# Altium integrated library WE-PMI_rev16a.intlib: 92 symbols
Pins are listed as number, name and electrical type; pins without a type are passive.

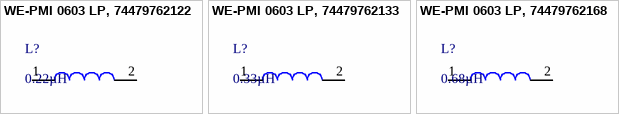
[diagram p0: symbols WE-PMI 0603 LP, 74479762122 to WE-PMI 0603 LP, 74479762168]

## WE-PMI 0603 LP, 74479762122
designator L?, comment 0.22µH
WE-PMI Power Multilayer Inductor, L= 0.22µH; partNo: 74479762122; Manufacturer: Wurth Elektronik; Inductance: 0.22µH; ComponentLink1Description: Manufacturer; ComponentLink1URL: http://www.we-online.de; Created by: Baojun Chen; Created Date: Dec.2015; ComponentLink2Description: Datasheet; ComponentLink2URL: http://katalog.we-online.de/pbs/datasheet/74479762122.pdf
footprint 74479762xxx_0603
pins: 1, 2

## WE-PMI 0603 LP, 74479762133
designator L?, comment 0.33µH
WE-PMI Power Multilayer Inductor, L= 0.33µH; partNo: 74479762133; Manufacturer: Wurth Elektronik; Inductance: 0.33µH; ComponentLink1Description: Manufacturer; ComponentLink1URL: http://www.we-online.de; Created by: Baojun Chen; Created Date: Dec.2015; ComponentLink2Description: Datasheet; ComponentLink2URL: http://katalog.we-online.de/pbs/datasheet/74479762133.pdf
footprint 74479762xxx_0603
pins: 1, 2

## WE-PMI 0603 LP, 74479762168
designator L?, comment 0.68µH
WE-PMI Power Multilayer Inductor, L= 0.68µH; partNo: 74479762168; Manufacturer: Wurth Elektronik; Inductance: 0.68µH; ComponentLink1Description: Manufacturer; ComponentLink1URL: http://www.we-online.de; Created by: Baojun Chen; Created Date: Dec.2015; ComponentLink2Description: Datasheet; ComponentLink2URL: http://katalog.we-online.de/pbs/datasheet/74479762168.pdf
footprint 74479762xxx_0603
pins: 1, 2


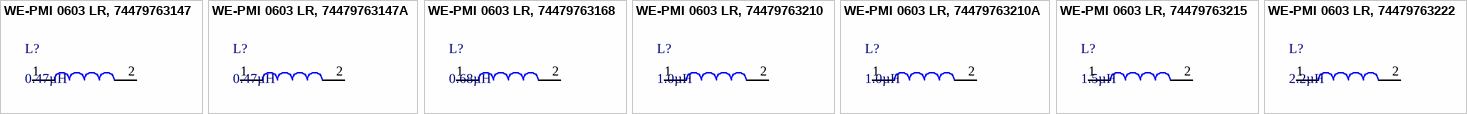
[diagram p1: symbols WE-PMI 0603 LR, 74479763147 to WE-PMI 0603 LR, 74479763222]

## WE-PMI 0603 LR, 74479763147
designator L?, comment 0.47µH
WE-PMI Power Multilayer Inductor, L= 0.47µH; partNo: 74479763147; Manufacturer: Wurth Elektronik; Inductance: 0.47µH; ComponentLink1Description: Manufacturer; ComponentLink1URL: http://www.we-online.de; Created by: Baojun Chen; Created Date: Dec.2015; ComponentLink2Description: Datasheet; ComponentLink2URL: http://katalog.we-online.de/pbs/datasheet/74479763147.pdf
footprint 74479763xxx_0603
pins: 1, 2

## WE-PMI 0603 LR, 74479763147A
designator L?, comment 0.47µH
WE-PMI Power Multilayer Inductor, L= 0.47µH; partNo: 74479763147A; Manufacturer: Wurth Elektronik; Inductance: 0.47µH; ComponentLink1Description: Manufacturer; ComponentLink1URL: http://www.we-online.de; Created by: Baojun Chen; Created Date: Dec.2015; ComponentLink2Description: Datasheet; ComponentLink2URL: http://katalog.we-online.de/pbs/datasheet/74479763147A.pdf
footprint 74479763xxx_0603
pins: 1, 2

## WE-PMI 0603 LR, 74479763168
designator L?, comment 0.68µH
WE-PMI Power Multilayer Inductor, L= 0.68µH; partNo: 74479763168; Manufacturer: Wurth Elektronik; Inductance: 0.68µH; ComponentLink1Description: Manufacturer; ComponentLink1URL: http://www.we-online.de; Created by: Baojun Chen; Created Date: Dec.2015; ComponentLink2Description: Datasheet; ComponentLink2URL: http://katalog.we-online.de/pbs/datasheet/74479763168.pdf
footprint 74479763xxx_0603
pins: 1, 2

## WE-PMI 0603 LR, 74479763210
designator L?, comment 1.0µH
WE-PMI Power Multilayer Inductor, L= 1.0µH; partNo: 74479763210; Manufacturer: Wurth Elektronik; Inductance: 1.0µH; ComponentLink1Description: Manufacturer; ComponentLink1URL: http://www.we-online.de; Created by: Baojun Chen; Created Date: Dec.2015; ComponentLink2Description: Datasheet; ComponentLink2URL: http://katalog.we-online.de/pbs/datasheet/74479763210.pdf
footprint 74479763xxx_0603
pins: 1, 2

## WE-PMI 0603 LR, 74479763210A
designator L?, comment 1.0µH
WE-PMI Power Multilayer Inductor, L= 1.0µH; partNo: 74479763210A; Manufacturer: Wurth Elektronik; Inductance: 1.0µH; ComponentLink1Description: Manufacturer; ComponentLink1URL: http://www.we-online.de; Created by: Baojun Chen; Created Date: Dec.2015; ComponentLink2Description: Datasheet; ComponentLink2URL: http://katalog.we-online.de/pbs/datasheet/74479763210A.pdf
footprint 74479763xxx_0603
pins: 1, 2

## WE-PMI 0603 LR, 74479763215
designator L?, comment 1.5µH
WE-PMI Power Multilayer Inductor, L= 1.5µH; partNo: 74479763215; Manufacturer: Wurth Elektronik; Inductance: 1.5µH; ComponentLink1Description: Manufacturer; ComponentLink1URL: http://www.we-online.de; Created by: Baojun Chen; Created Date: Dec.2015; ComponentLink2Description: Datasheet; ComponentLink2URL: http://katalog.we-online.de/pbs/datasheet/74479763215.pdf
footprint 74479763xxx_0603
pins: 1, 2

## WE-PMI 0603 LR, 74479763222
designator L?, comment 2.2µH
WE-PMI Power Multilayer Inductor, L= 2.2µH; partNo: 74479763222; Manufacturer: Wurth Elektronik; Inductance: 2.2µH; ComponentLink1Description: Manufacturer; ComponentLink1URL: http://www.we-online.de; Created by: Baojun Chen; Created Date: Dec.2015; ComponentLink2Description: Datasheet; ComponentLink2URL: http://katalog.we-online.de/pbs/datasheet/74479763222.pdf
footprint 74479763xxx_0603
pins: 1, 2


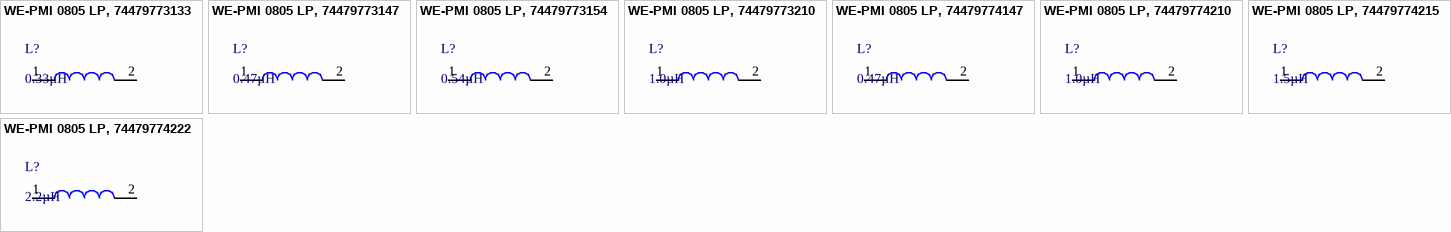
[diagram p2: symbols WE-PMI 0805 LP, 74479773133 to WE-PMI 0805 LP, 74479774222]

## WE-PMI 0805 LP, 74479773133
designator L?, comment 0.33µH
WE-PMI Power Multilayer Inductor, L= 0.33µH; partNo: 74479773133; Manufacturer: Wurth Elektronik; Inductance: 0.33µH; ComponentLink1Description: Manufacturer; ComponentLink1URL: http://www.we-online.de; Created by: Baojun Chen; Created Date: Dec.2015; ComponentLink2Description: Datasheet; ComponentLink2URL: http://katalog.we-online.de/pbs/datasheet/74479773133.pdf
footprint 74479774xxx_0805
pins: 1, 2

## WE-PMI 0805 LP, 74479773147
designator L?, comment 0.47µH
WE-PMI Power Multilayer Inductor, L= 0.47µH; partNo: 74479773147; Manufacturer: Wurth Elektronik; Inductance: 0.47µH; ComponentLink1Description: Manufacturer; ComponentLink1URL: http://www.we-online.de; Created by: Baojun Chen; Created Date: Dec.2015; ComponentLink2Description: Datasheet; ComponentLink2URL: http://katalog.we-online.de/pbs/datasheet/74479773147.pdf
footprint 74479774xxx_0805
pins: 1, 2

## WE-PMI 0805 LP, 74479773154
designator L?, comment 0.54µH
WE-PMI Power Multilayer Inductor, L= 0.54µH; partNo: 74479773154; Manufacturer: Wurth Elektronik; Inductance: 0.54µH; ComponentLink1Description: Manufacturer; ComponentLink1URL: http://www.we-online.de; Created by: Baojun Chen; Created Date: Dec.2015; ComponentLink2Description: Datasheet; ComponentLink2URL: http://katalog.we-online.de/pbs/datasheet/74479773154.pdf
footprint 74479774xxx_0805
pins: 1, 2

## WE-PMI 0805 LP, 74479773210
designator L?, comment 1.0µH
WE-PMI Power Multilayer Inductor, L= 1.0µH; partNo: 74479773210; Manufacturer: Wurth Elektronik; Inductance: 1.0µH; ComponentLink1Description: Manufacturer; ComponentLink1URL: http://www.we-online.de; Created by: Baojun Chen; Created Date: Dec.2015; ComponentLink2Description: Datasheet; ComponentLink2URL: http://katalog.we-online.de/pbs/datasheet/74479773210.pdf
footprint 74479774xxx_0805
pins: 1, 2

## WE-PMI 0805 LP, 74479774147
designator L?, comment 0.47µH
WE-PMI Power Multilayer Inductor, L= 0.47µH; partNo: 74479774147; Manufacturer: Wurth Elektronik; Inductance: 0.47µH; ComponentLink1Description: Manufacturer; ComponentLink1URL: http://www.we-online.de; Created by: Baojun Chen; Created Date: Dec.2015; ComponentLink2Description: Datasheet; ComponentLink2URL: http://katalog.we-online.de/pbs/datasheet/74479774147.pdf
footprint 74479774xxx_0805
pins: 1, 2

## WE-PMI 0805 LP, 74479774210
designator L?, comment 1.0µH
WE-PMI Power Multilayer Inductor, L= 1.0µH; partNo: 74479774210; Manufacturer: Wurth Elektronik; Inductance: 1.0µH; ComponentLink1Description: Manufacturer; ComponentLink1URL: http://www.we-online.de; Created by: Baojun Chen; Created Date: Dec.2015; ComponentLink2Description: Datasheet; ComponentLink2URL: http://katalog.we-online.de/pbs/datasheet/74479774210.pdf
footprint 74479774xxx_0805
pins: 1, 2

## WE-PMI 0805 LP, 74479774215
designator L?, comment 1.5µH
WE-PMI Power Multilayer Inductor, L= 1.5µH; partNo: 74479774215; Manufacturer: Wurth Elektronik; Inductance: 1.5µH; ComponentLink1Description: Manufacturer; ComponentLink1URL: http://www.we-online.de; Created by: Baojun Chen; Created Date: Dec.2015; ComponentLink2Description: Datasheet; ComponentLink2URL: http://katalog.we-online.de/pbs/datasheet/74479774215.pdf
footprint 74479774xxx_0805
pins: 1, 2

## WE-PMI 0805 LP, 74479774222
designator L?, comment 2.2µH
WE-PMI Power Multilayer Inductor, L= 2.2µH; partNo: 74479774222; Manufacturer: Wurth Elektronik; Inductance: 2.2µH; ComponentLink1Description: Manufacturer; ComponentLink1URL: http://www.we-online.de; Created by: Baojun Chen; Created Date: Dec.2015; ComponentLink2Description: Datasheet; ComponentLink2URL: http://katalog.we-online.de/pbs/datasheet/74479774222.pdf
footprint 74479774xxx_0805
pins: 1, 2


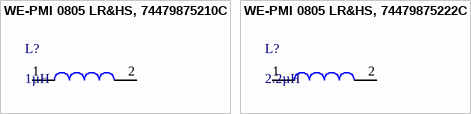
[diagram p3: symbols WE-PMI 0805 LR&HS, 74479875210C to WE-PMI 0805 LR&HS, 74479875222C]

## WE-PMI 0805 LR&HS, 74479875210C
designator L?, comment 1µH
WE-PMI Power Multilayer Inductor, L= 1µH; partNo: 74479875210C; Manufacturer: Wurth Elektronik; Inductance: 1µH; ComponentLink1Description: Manufacturer; ComponentLink1URL: http://www.we-online.de; Created by: Baojun Chen; Created Date: Dec.2015; ComponentLink2Description: Datasheet; ComponentLink2URL: http://katalog.we-online.de/pbs/datasheet/74479875210C.pdf
footprint 74479875xxx_0805
pins: 1, 2

## WE-PMI 0805 LR&HS, 74479875222C
designator L?, comment 2.2µH
WE-PMI Power Multilayer Inductor, L= 2.2µH; partNo: 74479875222C; Manufacturer: Wurth Elektronik; Inductance: 2.2µH; ComponentLink1Description: Manufacturer; ComponentLink1URL: http://www.we-online.de; Created by: Baojun Chen; Created Date: Dec.2015; ComponentLink2Description: Datasheet; ComponentLink2URL: http://katalog.we-online.de/pbs/datasheet/74479875222C.pdf
footprint 74479875xxx_0805
pins: 1, 2


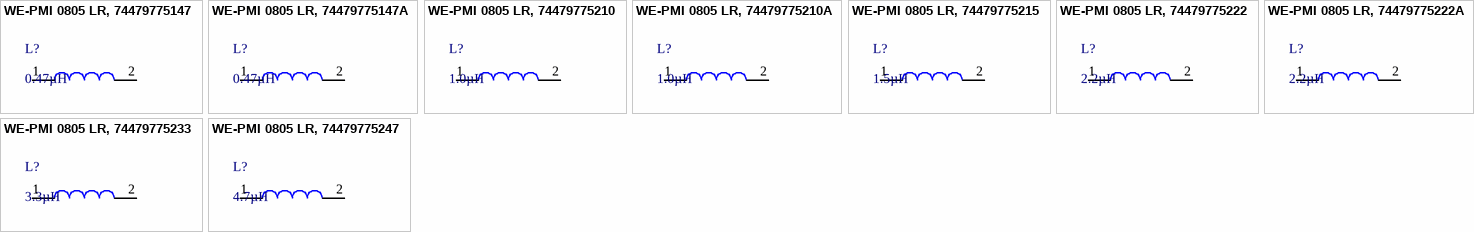
[diagram p4: symbols WE-PMI 0805 LR, 74479775147 to WE-PMI 0805 LR, 74479775247]

## WE-PMI 0805 LR, 74479775147
designator L?, comment 0.47µH
WE-PMI Power Multilayer Inductor, L= 0.47µH; partNo: 74479775147; Manufacturer: Wurth Elektronik; Inductance: 0.47µH; ComponentLink1Description: Manufacturer; ComponentLink1URL: http://www.we-online.de; Created by: Baojun Chen; Created Date: Dec.2015; ComponentLink2Description: Datasheet; ComponentLink2URL: http://katalog.we-online.de/pbs/datasheet/74479775147.pdf
footprint 74479775xxx_0805
pins: 1, 2

## WE-PMI 0805 LR, 74479775147A
designator L?, comment 0.47µH
WE-PMI Power Multilayer Inductor, L= 0.47µH; partNo: 74479775147A; Manufacturer: Wurth Elektronik; Inductance: 0.47µH; ComponentLink1Description: Manufacturer; ComponentLink1URL: http://www.we-online.de; Created by: Baojun Chen; Created Date: Dec.2015; ComponentLink2Description: Datasheet; ComponentLink2URL: http://katalog.we-online.de/pbs/datasheet/74479775147A.pdf
footprint 74479775xxxA_0805
pins: 1, 2

## WE-PMI 0805 LR, 74479775210
designator L?, comment 1.0µH
WE-PMI Power Multilayer Inductor, L= 1.0µH; partNo: 74479775210; Manufacturer: Wurth Elektronik; Inductance: 1.0µH; ComponentLink1Description: Manufacturer; ComponentLink1URL: http://www.we-online.de; Created by: Baojun Chen; Created Date: Dec.2015; ComponentLink2Description: Datasheet; ComponentLink2URL: http://katalog.we-online.de/pbs/datasheet/74479775210.pdf
footprint 74479775xxx_0805
pins: 1, 2

## WE-PMI 0805 LR, 74479775210A
designator L?, comment 1.0µH
WE-PMI Power Multilayer Inductor, L= 1.0µH; partNo: 74479775210A; Manufacturer: Wurth Elektronik; Inductance: 1.0µH; ComponentLink1Description: Manufacturer; ComponentLink1URL: http://www.we-online.de; Created by: Baojun Chen; Created Date: Dec.2015; ComponentLink2Description: Datasheet; ComponentLink2URL: http://katalog.we-online.de/pbs/datasheet/74479775210A.pdf
footprint 74479775xxxA_0805
pins: 1, 2

## WE-PMI 0805 LR, 74479775215
designator L?, comment 1.5µH
WE-PMI Power Multilayer Inductor, L= 1.5µH; partNo: 74479775215; Manufacturer: Wurth Elektronik; Inductance: 1.5µH; ComponentLink1Description: Manufacturer; ComponentLink1URL: http://www.we-online.de; Created by: Baojun Chen; Created Date: Dec.2015; ComponentLink2Description: Datasheet; ComponentLink2URL: http://katalog.we-online.de/pbs/datasheet/74479775215.pdf
footprint 74479775xxx_0805
pins: 1, 2

## WE-PMI 0805 LR, 74479775222
designator L?, comment 2.2µH
WE-PMI Power Multilayer Inductor, L= 2.2µH; partNo: 74479775222; Manufacturer: Wurth Elektronik; Inductance: 2.2µH; ComponentLink1Description: Manufacturer; ComponentLink1URL: http://www.we-online.de; Created by: Baojun Chen; Created Date: Dec.2015; ComponentLink2Description: Datasheet; ComponentLink2URL: http://katalog.we-online.de/pbs/datasheet/74479775222.pdf
footprint 74479775xxx_0805
pins: 1, 2

## WE-PMI 0805 LR, 74479775222A
designator L?, comment 2.2µH
WE-PMI Power Multilayer Inductor, L= 2.2µH; partNo: 74479775222A; Manufacturer: Wurth Elektronik; Inductance: 2.2µH; ComponentLink1Description: Manufacturer; ComponentLink1URL: http://www.we-online.de; Created by: Baojun Chen; Created Date: Dec.2015; ComponentLink2Description: Datasheet; ComponentLink2URL: http://katalog.we-online.de/pbs/datasheet/74479775222A.pdf
footprint 74479775xxxA_0805
pins: 1, 2

## WE-PMI 0805 LR, 74479775233
designator L?, comment 3.3µH
WE-PMI Power Multilayer Inductor, L= 3.3µH; partNo: 74479775233; Manufacturer: Wurth Elektronik; Inductance: 3.3µH; ComponentLink1Description: Manufacturer; ComponentLink1URL: http://www.we-online.de; Created by: Baojun Chen; Created Date: Dec.2015; ComponentLink2Description: Datasheet; ComponentLink2URL: http://katalog.we-online.de/pbs/datasheet/74479775233.pdf
footprint 74479775xxx_0805
pins: 1, 2

## WE-PMI 0805 LR, 74479775247
designator L?, comment 4.7µH
WE-PMI Power Multilayer Inductor, L= 4.7µH; partNo: 74479775247; Manufacturer: Wurth Elektronik; Inductance: 4.7µH; ComponentLink1Description: Manufacturer; ComponentLink1URL: http://www.we-online.de; Created by: Baojun Chen; Created Date: Dec.2015; ComponentLink2Description: Datasheet; ComponentLink2URL: http://katalog.we-online.de/pbs/datasheet/74479775247.pdf
footprint 74479775xxx_0805
pins: 1, 2


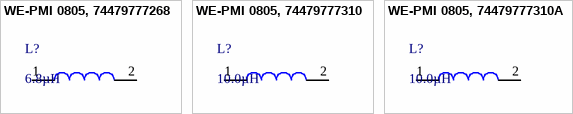
[diagram p5: symbols WE-PMI 0805, 74479777268 to WE-PMI 0805, 74479777310A]

## WE-PMI 0805, 74479777268
designator L?, comment 6.8µH
WE-PMI Power Multilayer Inductor, L= 6.8µH; partNo: 74479777268; Manufacturer: Wurth Elektronik; Inductance: 6.8µH; ComponentLink1Description: Manufacturer; ComponentLink1URL: http://www.we-online.de; Created by: Baojun Chen; Created Date: Dec.2015; ComponentLink2Description: Datasheet; ComponentLink2URL: http://katalog.we-online.de/pbs/datasheet/74479777268.pdf
footprint 74479777xxx_0805
pins: 1, 2

## WE-PMI 0805, 74479777310
designator L?, comment 10.0µH
WE-PMI Power Multilayer Inductor, L= 10.0µH; partNo: 74479777310; Manufacturer: Wurth Elektronik; Inductance: 10.0µH; ComponentLink1Description: Manufacturer; ComponentLink1URL: http://www.we-online.de; Created by: Baojun Chen; Created Date: Dec.2015; ComponentLink2Description: Datasheet; ComponentLink2URL: http://katalog.we-online.de/pbs/datasheet/74479777310.pdf
footprint 74479777xxx_0805
pins: 1, 2

## WE-PMI 0805, 74479777310A
designator L?, comment 10.0µH
WE-PMI Power Multilayer Inductor, L= 10.0µH; partNo: 74479777310A; Manufacturer: Wurth Elektronik; Inductance: 10.0µH; ComponentLink1Description: Manufacturer; ComponentLink1URL: http://www.we-online.de; Created by: Baojun Chen; Created Date: Dec.2015; ComponentLink2Description: Datasheet; ComponentLink2URL: http://katalog.we-online.de/pbs/datasheet/74479777310A.pdf
footprint 74479777xxx_0805
pins: 1, 2


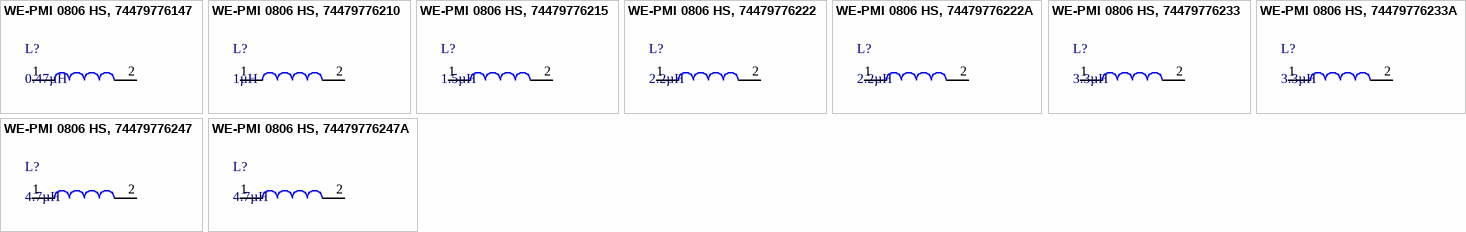
[diagram p6: symbols WE-PMI 0806 HS, 74479776147 to WE-PMI 0806 HS, 74479776247A]

## WE-PMI 0806 HS, 74479776147
designator L?, comment 0.47µH
WE-PMI Power Multilayer Inductor, L= 0.47µH; partNo: 74479776147; Manufacturer: Wurth Elektronik; Inductance: 0.47µH; ComponentLink1Description: Manufacturer; ComponentLink1URL: http://www.we-online.de; Created by: Baojun Chen; Created Date: Dec.2015; ComponentLink2Description: Datasheet; ComponentLink2URL: http://katalog.we-online.de/pbs/datasheet/74479776147.pdf
footprint 74479776xxx_0806
pins: 1, 2

## WE-PMI 0806 HS, 74479776210
designator L?, comment 1µH
WE-PMI Power Multilayer Inductor, L= 1µH; partNo: 74479776210; Manufacturer: Wurth Elektronik; Inductance: 1µH; ComponentLink1Description: Manufacturer; ComponentLink1URL: http://www.we-online.de; Created by: Baojun Chen; Created Date: Dec.2015; ComponentLink2Description: Datasheet; ComponentLink2URL: http://katalog.we-online.de/pbs/datasheet/74479776210.pdf
footprint 74479776xxx_0806
pins: 1, 2

## WE-PMI 0806 HS, 74479776215
designator L?, comment 1.5µH
WE-PMI Power Multilayer Inductor, L= 1.5µH; partNo: 74479776215; Manufacturer: Wurth Elektronik; Inductance: 1.5µH; ComponentLink1Description: Manufacturer; ComponentLink1URL: http://www.we-online.de; Created by: Baojun Chen; Created Date: Dec.2015; ComponentLink2Description: Datasheet; ComponentLink2URL: http://katalog.we-online.de/pbs/datasheet/74479776215.pdf
footprint 74479776xxx_0806
pins: 1, 2

## WE-PMI 0806 HS, 74479776222
designator L?, comment 2.2µH
WE-PMI Power Multilayer Inductor, L= 2.2µH; partNo: 74479776222; Manufacturer: Wurth Elektronik; Inductance: 2.2µH; ComponentLink1Description: Manufacturer; ComponentLink1URL: http://www.we-online.de; Created by: Baojun Chen; Created Date: Dec.2015; ComponentLink2Description: Datasheet; ComponentLink2URL: http://katalog.we-online.de/pbs/datasheet/74479776222.pdf
footprint 74479776xxx_0806
pins: 1, 2

## WE-PMI 0806 HS, 74479776222A
designator L?, comment 2.2µH
WE-PMI Power Multilayer Inductor, L= 2.2µH; partNo: 74479776222A; Manufacturer: Wurth Elektronik; Inductance: 2.2µH; ComponentLink1Description: Manufacturer; ComponentLink1URL: http://www.we-online.de; Created by: Baojun Chen; Created Date: Dec.2015; ComponentLink2Description: Datasheet; ComponentLink2URL: http://katalog.we-online.de/pbs/datasheet/74479776222A.pdf
footprint 74479776xxxA_0806
pins: 1, 2

## WE-PMI 0806 HS, 74479776233
designator L?, comment 3.3µH
WE-PMI Power Multilayer Inductor, L= 3.3µH; partNo: 74479776233; Manufacturer: Wurth Elektronik; Inductance: 3.3µH; ComponentLink1Description: Manufacturer; ComponentLink1URL: http://www.we-online.de; Created by: Baojun Chen; Created Date: Dec.2015; ComponentLink2Description: Datasheet; ComponentLink2URL: http://katalog.we-online.de/pbs/datasheet/74479776233.pdf
footprint 74479776xxx_0806
pins: 1, 2

## WE-PMI 0806 HS, 74479776233A
designator L?, comment 3.3µH
WE-PMI Power Multilayer Inductor, L= 3.3µH; partNo: 74479776233A; Manufacturer: Wurth Elektronik; Inductance: 3.3µH; ComponentLink1Description: Manufacturer; ComponentLink1URL: http://www.we-online.de; Created by: Baojun Chen; Created Date: Dec.2015; ComponentLink2Description: Datasheet; ComponentLink2URL: http://katalog.we-online.de/pbs/datasheet/74479776233A.pdf
footprint 74479776xxxA_0806
pins: 1, 2

## WE-PMI 0806 HS, 74479776247
designator L?, comment 4.7µH
WE-PMI Power Multilayer Inductor, L= 4.7µH; partNo: 74479776247; Manufacturer: Wurth Elektronik; Inductance: 4.7µH; ComponentLink1Description: Manufacturer; ComponentLink1URL: http://www.we-online.de; Created by: Baojun Chen; Created Date: Dec.2015; ComponentLink2Description: Datasheet; ComponentLink2URL: http://katalog.we-online.de/pbs/datasheet/74479776247.pdf
footprint 74479776xxx_0806
pins: 1, 2

## WE-PMI 0806 HS, 74479776247A
designator L?, comment 4.7µH
WE-PMI Power Multilayer Inductor, L= 4.7µH; partNo: 74479776247A; Manufacturer: Wurth Elektronik; Inductance: 4.7µH; ComponentLink1Description: Manufacturer; ComponentLink1URL: http://www.we-online.de; Created by: Baojun Chen; Created Date: Dec.2015; ComponentLink2Description: Datasheet; ComponentLink2URL: http://katalog.we-online.de/pbs/datasheet/74479776247A.pdf
footprint 74479776xxxA_0806
pins: 1, 2


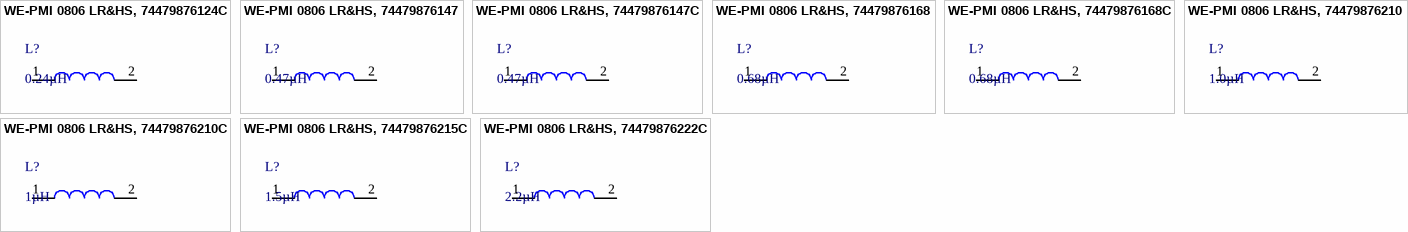
[diagram p7: symbols WE-PMI 0806 LR&HS, 74479876124C to WE-PMI 0806 LR&HS, 74479876222C]

## WE-PMI 0806 LR&HS, 74479876124C
designator L?, comment 0.24µH
WE-PMI Power Multilayer Inductor, L= 0.24µH; partNo: 74479876124C; Manufacturer: Wurth Elektronik; Inductance: 0.24µH; ComponentLink1Description: Manufacturer; ComponentLink1URL: http://www.we-online.de; Created by: Baojun Chen; Created Date: Dec.2015; ComponentLink2Description: Datasheet; ComponentLink2URL: http://katalog.we-online.de/pbs/datasheet/74479876124C.pdf
footprint 74479876xxxC_0806
pins: 1, 2

## WE-PMI 0806 LR&HS, 74479876147
designator L?, comment 0.47µH
WE-PMI Power Multilayer Inductor, L= 0.47µH; partNo: 74479876147; Manufacturer: Wurth Elektronik; Inductance: 0.47µH; ComponentLink1Description: Manufacturer; ComponentLink1URL: http://www.we-online.de; Created by: Baojun Chen; Created Date: Dec.2015; ComponentLink2Description: Datasheet; ComponentLink2URL: http://katalog.we-online.de/pbs/datasheet/74479876147.pdf
footprint 74479876xxxC_0806
pins: 1, 2

## WE-PMI 0806 LR&HS, 74479876147C
designator L?, comment 0.47µH
WE-PMI Power Multilayer Inductor, L= 0.47µH; partNo: 74479876147C; Manufacturer: Wurth Elektronik; Inductance: 0.47µH; ComponentLink1Description: Manufacturer; ComponentLink1URL: http://www.we-online.de; Created by: Baojun Chen; Created Date: Dec.2015; ComponentLink2Description: Datasheet; ComponentLink2URL: http://katalog.we-online.de/pbs/datasheet/74479876147C.pdf
footprint 74479876xxxC_0806
pins: 1, 2

## WE-PMI 0806 LR&HS, 74479876168
designator L?, comment 0.68µH
WE-PMI Power Multilayer Inductor, L= 0.68µH; partNo: 74479876168; Manufacturer: Wurth Elektronik; Inductance: 0.68µH; ComponentLink1Description: Manufacturer; ComponentLink1URL: http://www.we-online.de; Created by: Baojun Chen; Created Date: Dec.2015; ComponentLink2Description: Datasheet; ComponentLink2URL: http://katalog.we-online.de/pbs/datasheet/74479876168.pdf
footprint 74479876xxxC_0806
pins: 1, 2

## WE-PMI 0806 LR&HS, 74479876168C
designator L?, comment 0.68µH
WE-PMI Power Multilayer Inductor, L= 0.68µH; partNo: 74479876168C; Manufacturer: Wurth Elektronik; Inductance: 0.68µH; ComponentLink1Description: Manufacturer; ComponentLink1URL: http://www.we-online.de; Created by: Baojun Chen; Created Date: Dec.2015; ComponentLink2Description: Datasheet; ComponentLink2URL: http://katalog.we-online.de/pbs/datasheet/74479876168C.pdf
footprint 74479876xxxC_0806
pins: 1, 2

## WE-PMI 0806 LR&HS, 74479876210
designator L?, comment 1.0µH
WE-PMI Power Multilayer Inductor, L= 1.0µH; partNo: 74479876210; Manufacturer: Wurth Elektronik; Inductance: 1.0µH; ComponentLink1Description: Manufacturer; ComponentLink1URL: http://www.we-online.de; Created by: Baojun Chen; Created Date: Dec.2015; ComponentLink2Description: Datasheet; ComponentLink2URL: http://katalog.we-online.de/pbs/datasheet/74479876210.pdf
footprint 74479876xxxC_0806
pins: 1, 2

## WE-PMI 0806 LR&HS, 74479876210C
designator L?, comment 1µH
WE-PMI Power Multilayer Inductor, L= 1µH; partNo: 74479876210C; Manufacturer: Wurth Elektronik; Inductance: 1µH; ComponentLink1Description: Manufacturer; ComponentLink1URL: http://www.we-online.de; Created by: Baojun Chen; Created Date: Dec.2015; ComponentLink2Description: Datasheet; ComponentLink2URL: http://katalog.we-online.de/pbs/datasheet/74479876210C.pdf
footprint 74479876xxxC_0806
pins: 1, 2

## WE-PMI 0806 LR&HS, 74479876215C
designator L?, comment 1.5µH
WE-PMI Power Multilayer Inductor, L= 1.5µH; partNo: 74479876215C; Manufacturer: Wurth Elektronik; Inductance: 1.5µH; ComponentLink1Description: Manufacturer; ComponentLink1URL: http://www.we-online.de; Created by: Baojun Chen; Created Date: Dec.2015; ComponentLink2Description: Datasheet; ComponentLink2URL: http://katalog.we-online.de/pbs/datasheet/74479876215C.pdf
footprint 74479876xxxC_0806
pins: 1, 2

## WE-PMI 0806 LR&HS, 74479876222C
designator L?, comment 2.2µH
WE-PMI Power Multilayer Inductor, L= 2.2µH; partNo: 74479876222C; Manufacturer: Wurth Elektronik; Inductance: 2.2µH; ComponentLink1Description: Manufacturer; ComponentLink1URL: http://www.we-online.de; Created by: Baojun Chen; Created Date: Dec.2015; ComponentLink2Description: Datasheet; ComponentLink2URL: http://katalog.we-online.de/pbs/datasheet/74479876222C.pdf
footprint 74479876xxxC_0806
pins: 1, 2


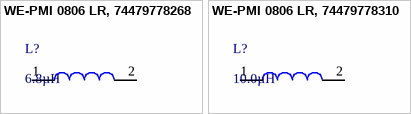
[diagram p8: symbols WE-PMI 0806 LR, 74479778268 to WE-PMI 0806 LR, 74479778310]

## WE-PMI 0806 LR, 74479778268
designator L?, comment 6.8µH
WE-PMI Power Multilayer Inductor, L= 6.8µH; partNo: 74479778268; Manufacturer: Wurth Elektronik; Inductance: 6.8µH; ComponentLink1Description: Manufacturer; ComponentLink1URL: http://www.we-online.de; Created by: Baojun Chen; Created Date: Dec.2015; ComponentLink2Description: Datasheet; ComponentLink2URL: http://katalog.we-online.de/pbs/datasheet/74479778268.pdf
footprint 74479778xxx_0806
pins: 1, 2

## WE-PMI 0806 LR, 74479778310
designator L?, comment 10.0µH
WE-PMI Power Multilayer Inductor, L= 10.0µH; partNo: 74479778310; Manufacturer: Wurth Elektronik; Inductance: 10.0µH; ComponentLink1Description: Manufacturer; ComponentLink1URL: http://www.we-online.de; Created by: Baojun Chen; Created Date: Dec.2015; ComponentLink2Description: Datasheet; ComponentLink2URL: http://katalog.we-online.de/pbs/datasheet/74479778310.pdf
footprint 74479778xxx_0806
pins: 1, 2


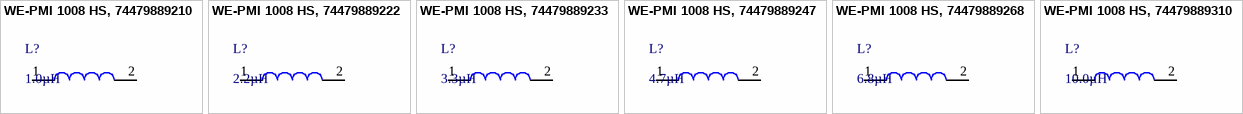
[diagram p9: symbols WE-PMI 1008 HS, 74479889210 to WE-PMI 1008 HS, 74479889310]

## WE-PMI 1008 HS, 74479889210
designator L?, comment 1.0µH
WE-PMI Power Multilayer Inductor, L= 1.0µH; partNo: 74479889210; Manufacturer: Wurth Elektronik; Inductance: 1.0µH; ComponentLink1Description: Manufacturer; ComponentLink1URL: http://www.we-online.de; Created by: Baojun Chen; Created Date: Dec.2015; ComponentLink2Description: Datasheet; ComponentLink2URL: http://katalog.we-online.de/pbs/datasheet/74479889210.pdf
footprint 74479889xxx_1008
pins: 1, 2

## WE-PMI 1008 HS, 74479889222
designator L?, comment 2.2µH
WE-PMI Power Multilayer Inductor, L= 2.2µH; partNo: 74479889222; Manufacturer: Wurth Elektronik; Inductance: 2.2µH; ComponentLink1Description: Manufacturer; ComponentLink1URL: http://www.we-online.de; Created by: Baojun Chen; Created Date: Dec.2015; ComponentLink2Description: Datasheet; ComponentLink2URL: http://katalog.we-online.de/pbs/datasheet/74479889222.pdf
footprint 74479889xxx_1008
pins: 1, 2

## WE-PMI 1008 HS, 74479889233
designator L?, comment 3.3µH
WE-PMI Power Multilayer Inductor, L= 3.3µH; partNo: 74479889233; Manufacturer: Wurth Elektronik; Inductance: 3.3µH; ComponentLink1Description: Manufacturer; ComponentLink1URL: http://www.we-online.de; Created by: Baojun Chen; Created Date: Dec.2015; ComponentLink2Description: Datasheet; ComponentLink2URL: http://katalog.we-online.de/pbs/datasheet/74479889233.pdf
footprint 74479889xxx_1008
pins: 1, 2

## WE-PMI 1008 HS, 74479889247
designator L?, comment 4.7µH
WE-PMI Power Multilayer Inductor, L= 4.7µH; partNo: 74479889247; Manufacturer: Wurth Elektronik; Inductance: 4.7µH; ComponentLink1Description: Manufacturer; ComponentLink1URL: http://www.we-online.de; Created by: Baojun Chen; Created Date: Dec.2015; ComponentLink2Description: Datasheet; ComponentLink2URL: http://katalog.we-online.de/pbs/datasheet/74479889247.pdf
footprint 74479889xxx_1008
pins: 1, 2

## WE-PMI 1008 HS, 74479889268
designator L?, comment 6.8µH
WE-PMI Power Multilayer Inductor, L= 6.8µH; partNo: 74479889268; Manufacturer: Wurth Elektronik; Inductance: 6.8µH; ComponentLink1Description: Manufacturer; ComponentLink1URL: http://www.we-online.de; Created by: Baojun Chen; Created Date: Dec.2015; ComponentLink2Description: Datasheet; ComponentLink2URL: http://katalog.we-online.de/pbs/datasheet/74479889268.pdf
footprint 74479889xxx_1008
pins: 1, 2

## WE-PMI 1008 HS, 74479889310
designator L?, comment 10.0µH
WE-PMI Power Multilayer Inductor, L= 10.0µH; partNo: 74479889310; Manufacturer: Wurth Elektronik; Inductance: 10.0µH; ComponentLink1Description: Manufacturer; ComponentLink1URL: http://www.we-online.de; Created by: Baojun Chen; Created Date: Dec.2015; ComponentLink2Description: Datasheet; ComponentLink2URL: http://katalog.we-online.de/pbs/datasheet/74479889310.pdf
footprint 74479889xxx_1008
pins: 1, 2


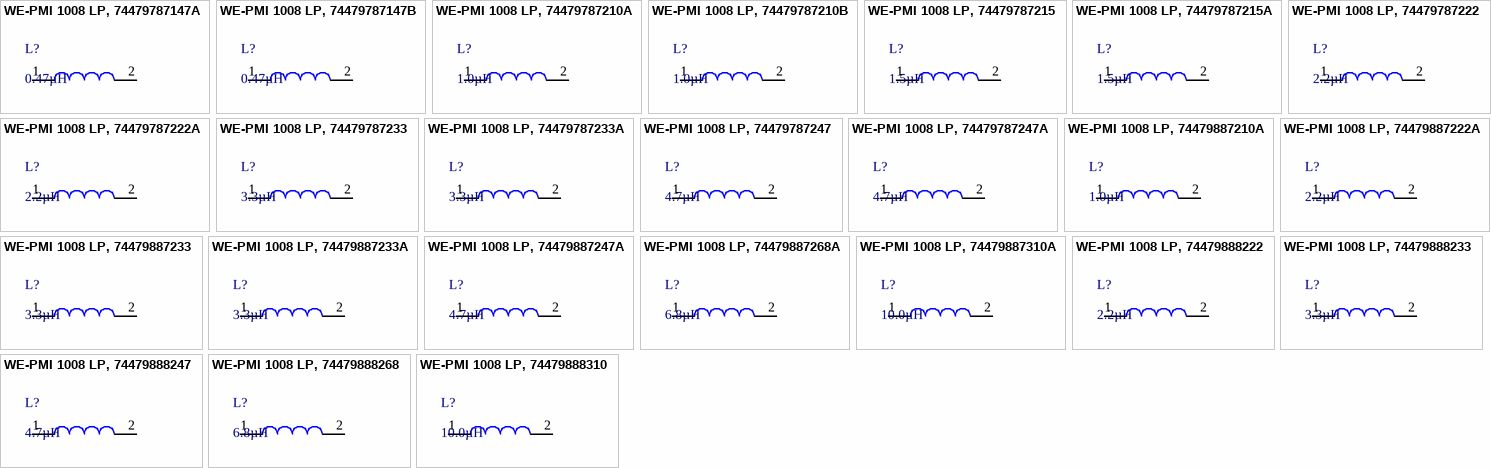
[diagram p10: symbols WE-PMI 1008 LP, 74479787147A to WE-PMI 1008 LP, 74479888310]

## WE-PMI 1008 LP, 74479787147A
designator L?, comment 0.47µH
WE-PMI Power Multilayer Inductor, L= 0.47µH; partNo: 74479787147A; Manufacturer: Wurth Elektronik; Inductance: 0.47µH; ComponentLink1Description: Manufacturer; ComponentLink1URL: http://www.we-online.de; Created by: Baojun Chen; Created Date: Dec.2015; ComponentLink2Description: Datasheet; ComponentLink2URL: http://katalog.we-online.de/pbs/datasheet/74479787147A.pdf
footprint 74479787xxxA_1008
pins: 1, 2

## WE-PMI 1008 LP, 74479787147B
designator L?, comment 0.47µH
WE-PMI Power Multilayer Inductor, L= 0.47µH; partNo: 74479787147B; Manufacturer: Wurth Elektronik; Inductance: 0.47µH; ComponentLink1Description: Manufacturer; ComponentLink1URL: http://www.we-online.de; Created by: Baojun Chen; Created Date: Dec.2015; ComponentLink2Description: Datasheet; ComponentLink2URL: http://katalog.we-online.de/pbs/datasheet/74479787147B.pdf
footprint 74479787xxx_1008
pins: 1, 2

## WE-PMI 1008 LP, 74479787210A
designator L?, comment 1.0µH
WE-PMI Power Multilayer Inductor, L= 1.0µH; partNo: 74479787210A; Manufacturer: Wurth Elektronik; Inductance: 1.0µH; ComponentLink1Description: Manufacturer; ComponentLink1URL: http://www.we-online.de; Created by: Baojun Chen; Created Date: Dec.2015; ComponentLink2Description: Datasheet; ComponentLink2URL: http://katalog.we-online.de/pbs/datasheet/74479787210A.pdf
footprint 74479787xxxA_1008
pins: 1, 2

## WE-PMI 1008 LP, 74479787210B
designator L?, comment 1.0µH
WE-PMI Power Multilayer Inductor, L= 1.0µH; partNo: 74479787210B; Manufacturer: Wurth Elektronik; Inductance: 1.0µH; ComponentLink1Description: Manufacturer; ComponentLink1URL: http://www.we-online.de; Created by: Baojun Chen; Created Date: Dec.2015; ComponentLink2Description: Datasheet; ComponentLink2URL: http://katalog.we-online.de/pbs/datasheet/74479787210B.pdf
footprint 74479787xxx_1008
pins: 1, 2

## WE-PMI 1008 LP, 74479787215
designator L?, comment 1.5µH
WE-PMI Power Multilayer Inductor, L= 1.5µH; partNo: 74479787215; Manufacturer: Wurth Elektronik; Inductance: 1.5µH; ComponentLink1Description: Manufacturer; ComponentLink1URL: http://www.we-online.de; Created by: Baojun Chen; Created Date: Dec.2015; ComponentLink2Description: Datasheet; ComponentLink2URL: http://katalog.we-online.de/pbs/datasheet/74479787215.pdf
footprint 74479787xxx_1008
pins: 1, 2

## WE-PMI 1008 LP, 74479787215A
designator L?, comment 1.5µH
WE-PMI Power Multilayer Inductor, L= 1.5µH; partNo: 74479787215A; Manufacturer: Wurth Elektronik; Inductance: 1.5µH; ComponentLink1Description: Manufacturer; ComponentLink1URL: http://www.we-online.de; Created by: Baojun Chen; Created Date: Dec.2015; ComponentLink2Description: Datasheet; ComponentLink2URL: http://katalog.we-online.de/pbs/datasheet/74479787215A.pdf
footprint 74479787xxxA_1008
pins: 1, 2

## WE-PMI 1008 LP, 74479787222
designator L?, comment 2.2µH
WE-PMI Power Multilayer Inductor, L= 2.2µH; partNo: 74479787222; Manufacturer: Wurth Elektronik; Inductance: 2.2µH; ComponentLink1Description: Manufacturer; ComponentLink1URL: http://www.we-online.de; Created by: Baojun Chen; Created Date: Dec.2015; ComponentLink2Description: Datasheet; ComponentLink2URL: http://katalog.we-online.de/pbs/datasheet/74479787222.pdf
footprint 74479787xxx_1008
pins: 1, 2

## WE-PMI 1008 LP, 74479787222A
designator L?, comment 2.2µH
WE-PMI Power Multilayer Inductor, L= 2.2µH; partNo: 74479787222A; Manufacturer: Wurth Elektronik; Inductance: 2.2µH; ComponentLink1Description: Manufacturer; ComponentLink1URL: http://www.we-online.de; Created by: Baojun Chen; Created Date: Dec.2015; ComponentLink2Description: Datasheet; ComponentLink2URL: http://katalog.we-online.de/pbs/datasheet/74479787222A.pdf
footprint 74479787xxxA_1008
pins: 1, 2

## WE-PMI 1008 LP, 74479787233
designator L?, comment 3.3µH
WE-PMI Power Multilayer Inductor, L= 3.3µH; partNo: 74479787233; Manufacturer: Wurth Elektronik; Inductance: 3.3µH; ComponentLink1Description: Manufacturer; ComponentLink1URL: http://www.we-online.de; Created by: Baojun Chen; Created Date: Dec.2015; ComponentLink2Description: Datasheet; ComponentLink2URL: http://katalog.we-online.de/pbs/datasheet/74479787233.pdf
footprint 74479787xxx_1008
pins: 1, 2

## WE-PMI 1008 LP, 74479787233A
designator L?, comment 3.3µH
WE-PMI Power Multilayer Inductor, L= 3.3µH; partNo: 74479787233A; Manufacturer: Wurth Elektronik; Inductance: 3.3µH; ComponentLink1Description: Manufacturer; ComponentLink1URL: http://www.we-online.de; Created by: Baojun Chen; Created Date: Dec.2015; ComponentLink2Description: Datasheet; ComponentLink2URL: http://katalog.we-online.de/pbs/datasheet/74479787233A.pdf
footprint 74479787xxxA_1008
pins: 1, 2

## WE-PMI 1008 LP, 74479787247
designator L?, comment 4.7µH
WE-PMI Power Multilayer Inductor, L= 4.7µH; partNo: 74479787247; Manufacturer: Wurth Elektronik; Inductance: 4.7µH; ComponentLink1Description: Manufacturer; ComponentLink1URL: http://www.we-online.de; Created by: Baojun Chen; Created Date: Dec.2015; ComponentLink2Description: Datasheet; ComponentLink2URL: http://katalog.we-online.de/pbs/datasheet/74479787247.pdf
footprint 74479787xxx_1008
pins: 1, 2

## WE-PMI 1008 LP, 74479787247A
designator L?, comment 4.7µH
WE-PMI Power Multilayer Inductor, L= 4.7µH; partNo: 74479787247A; Manufacturer: Wurth Elektronik; Inductance: 4.7µH; ComponentLink1Description: Manufacturer; ComponentLink1URL: http://www.we-online.de; Created by: Baojun Chen; Created Date: Dec.2015; ComponentLink2Description: Datasheet; ComponentLink2URL: http://katalog.we-online.de/pbs/datasheet/74479787247A.pdf
footprint 74479787xxxA_1008
pins: 1, 2

## WE-PMI 1008 LP, 74479887210A
designator L?, comment 1.0µH
WE-PMI Power Multilayer Inductor, L= 1.0µH; partNo: 74479887210A; Manufacturer: Wurth Elektronik; Inductance: 1.0µH; ComponentLink1Description: Manufacturer; ComponentLink1URL: http://www.we-online.de; Created by: Baojun Chen; Created Date: Dec.2015; ComponentLink2Description: Datasheet; ComponentLink2URL: http://katalog.we-online.de/pbs/datasheet/74479887210A.pdf
footprint 74479887xxx_1008
pins: 1, 2

## WE-PMI 1008 LP, 74479887222A
designator L?, comment 2.2µH
WE-PMI Power Multilayer Inductor, L= 2.2µH; partNo: 74479887222A; Manufacturer: Wurth Elektronik; Inductance: 2.2µH; ComponentLink1Description: Manufacturer; ComponentLink1URL: http://www.we-online.de; Created by: Baojun Chen; Created Date: Dec.2015; ComponentLink2Description: Datasheet; ComponentLink2URL: http://katalog.we-online.de/pbs/datasheet/74479887222A.pdf
footprint 74479887xxx_1008
pins: 1, 2

## WE-PMI 1008 LP, 74479887233
designator L?, comment 3.3µH
WE-PMI Power Multilayer Inductor, L= 3.3µH; partNo: 74479887233; Manufacturer: Wurth Elektronik; Inductance: 3.3µH; ComponentLink1Description: Manufacturer; ComponentLink1URL: http://www.we-online.de; Created by: Baojun Chen; Created Date: Dec.2015; ComponentLink2Description: Datasheet; ComponentLink2URL: http://katalog.we-online.de/pbs/datasheet/74479887233.pdf
footprint 74479887xxx_1008
pins: 1, 2

## WE-PMI 1008 LP, 74479887233A
designator L?, comment 3.3µH
WE-PMI Power Multilayer Inductor, L= 3.3µH; partNo: 74479887233A; Manufacturer: Wurth Elektronik; Inductance: 3.3µH; ComponentLink1Description: Manufacturer; ComponentLink1URL: http://www.we-online.de; Created by: Baojun Chen; Created Date: Dec.2015; ComponentLink2Description: Datasheet; ComponentLink2URL: http://katalog.we-online.de/pbs/datasheet/74479887233A.pdf
footprint 74479887xxx_1008
pins: 1, 2

## WE-PMI 1008 LP, 74479887247A
designator L?, comment 4.7µH
WE-PMI Power Multilayer Inductor, L= 4.7µH; partNo: 74479887247A; Manufacturer: Wurth Elektronik; Inductance: 4.7µH; ComponentLink1Description: Manufacturer; ComponentLink1URL: http://www.we-online.de; Created by: Baojun Chen; Created Date: Dec.2015; ComponentLink2Description: Datasheet; ComponentLink2URL: http://katalog.we-online.de/pbs/datasheet/74479887247A.pdf
footprint 74479887xxx_1008
pins: 1, 2

## WE-PMI 1008 LP, 74479887268A
designator L?, comment 6.8µH
WE-PMI Power Multilayer Inductor, L= 6.8µH; partNo: 74479887268A; Manufacturer: Wurth Elektronik; Inductance: 6.8µH; ComponentLink1Description: Manufacturer; ComponentLink1URL: http://www.we-online.de; Created by: Baojun Chen; Created Date: Dec.2015; ComponentLink2Description: Datasheet; ComponentLink2URL: http://katalog.we-online.de/pbs/datasheet/74479887268A.pdf
footprint 74479887xxx_1008
pins: 1, 2

## WE-PMI 1008 LP, 74479887310A
designator L?, comment 10.0µH
WE-PMI Power Multilayer Inductor, L= 10.0µH; partNo: 74479887310A; Manufacturer: Wurth Elektronik; Inductance: 10.0µH; ComponentLink1Description: Manufacturer; ComponentLink1URL: http://www.we-online.de; Created by: Baojun Chen; Created Date: Dec.2015; ComponentLink2Description: Datasheet; ComponentLink2URL: http://katalog.we-online.de/pbs/datasheet/74479887310A.pdf
footprint 74479887xxx_1008
pins: 1, 2

## WE-PMI 1008 LP, 74479888222
designator L?, comment 2.2µH
WE-PMI Power Multilayer Inductor, L= 2.2µH; partNo: 74479888222; Manufacturer: Wurth Elektronik; Inductance: 2.2µH; ComponentLink1Description: Manufacturer; ComponentLink1URL: http://www.we-online.de; Created by: Baojun Chen; Created Date: Dec.2015; ComponentLink2Description: Datasheet; ComponentLink2URL: http://katalog.we-online.de/pbs/datasheet/74479888222.pdf
footprint 74479888xxx_1008
pins: 1, 2

## WE-PMI 1008 LP, 74479888233
designator L?, comment 3.3µH
WE-PMI Power Multilayer Inductor, L= 3.3µH; partNo: 74479888233; Manufacturer: Wurth Elektronik; Inductance: 3.3µH; ComponentLink1Description: Manufacturer; ComponentLink1URL: http://www.we-online.de; Created by: Baojun Chen; Created Date: Dec.2015; ComponentLink2Description: Datasheet; ComponentLink2URL: http://katalog.we-online.de/pbs/datasheet/74479888233.pdf
footprint 74479888xxx_1008
pins: 1, 2

## WE-PMI 1008 LP, 74479888247
designator L?, comment 4.7µH
WE-PMI Power Multilayer Inductor, L= 4.7µH; partNo: 74479888247; Manufacturer: Wurth Elektronik; Inductance: 4.7µH; ComponentLink1Description: Manufacturer; ComponentLink1URL: http://www.we-online.de; Created by: Baojun Chen; Created Date: Dec.2015; ComponentLink2Description: Datasheet; ComponentLink2URL: http://katalog.we-online.de/pbs/datasheet/74479888247.pdf
footprint 74479888xxx_1008
pins: 1, 2

## WE-PMI 1008 LP, 74479888268
designator L?, comment 6.8µH
WE-PMI Power Multilayer Inductor, L= 6.8µH; partNo: 74479888268; Manufacturer: Wurth Elektronik; Inductance: 6.8µH; ComponentLink1Description: Manufacturer; ComponentLink1URL: http://www.we-online.de; Created by: Baojun Chen; Created Date: Dec.2015; ComponentLink2Description: Datasheet; ComponentLink2URL: http://katalog.we-online.de/pbs/datasheet/74479888268.pdf
footprint 74479888xxx_1008
pins: 1, 2

## WE-PMI 1008 LP, 74479888310
designator L?, comment 10.0µH
WE-PMI Power Multilayer Inductor, L= 10.0µH; partNo: 74479888310; Manufacturer: Wurth Elektronik; Inductance: 10.0µH; ComponentLink1Description: Manufacturer; ComponentLink1URL: http://www.we-online.de; Created by: Baojun Chen; Created Date: Dec.2015; ComponentLink2Description: Datasheet; ComponentLink2URL: http://katalog.we-online.de/pbs/datasheet/74479888310.pdf
footprint 74479888xxx_1008
pins: 1, 2


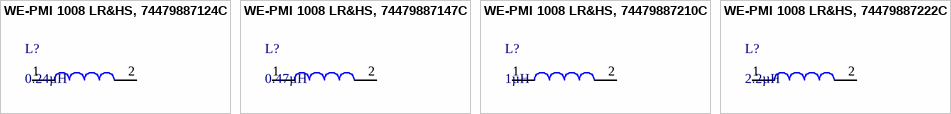
[diagram p11: symbols WE-PMI 1008 LR&HS, 74479887124C to WE-PMI 1008 LR&HS, 74479887222C]

## WE-PMI 1008 LR&HS, 74479887124C
designator L?, comment 0.24µH
WE-PMI Power Multilayer Inductor, L= 0.24µH; partNo: 74479887124C; Manufacturer: Wurth Elektronik; Inductance: 0.24µH; ComponentLink1Description: Manufacturer; ComponentLink1URL: http://www.we-online.de; Created by: Baojun Chen; Created Date: Dec.2015; ComponentLink2Description: Datasheet; ComponentLink2URL: http://katalog.we-online.de/pbs/datasheet/74479887124C.pdf
footprint 74479887xxxC_1008
pins: 1, 2

## WE-PMI 1008 LR&HS, 74479887147C
designator L?, comment 0.47µH
WE-PMI Power Multilayer Inductor, L= 0.47µH; partNo: 74479887147C; Manufacturer: Wurth Elektronik; Inductance: 0.47µH; ComponentLink1Description: Manufacturer; ComponentLink1URL: http://www.we-online.de; Created by: Baojun Chen; Created Date: Dec.2015; ComponentLink2Description: Datasheet; ComponentLink2URL: http://katalog.we-online.de/pbs/datasheet/74479887147C.pdf
footprint 74479887xxxC_1008
pins: 1, 2

## WE-PMI 1008 LR&HS, 74479887210C
designator L?, comment 1µH
WE-PMI Power Multilayer Inductor, L= 1µH; partNo: 74479887210C; Manufacturer: Wurth Elektronik; Inductance: 1µH; ComponentLink1Description: Manufacturer; ComponentLink1URL: http://www.we-online.de; Created by: Baojun Chen; Created Date: Dec.2015; ComponentLink2Description: Datasheet; ComponentLink2URL: http://katalog.we-online.de/pbs/datasheet/74479887210C.pdf
footprint 74479887xxxC_1008
pins: 1, 2

## WE-PMI 1008 LR&HS, 74479887222C
designator L?, comment 2.2µH
WE-PMI Power Multilayer Inductor, L= 2.2µH; partNo: 74479887222C; Manufacturer: Wurth Elektronik; Inductance: 2.2µH; ComponentLink1Description: Manufacturer; ComponentLink1URL: http://www.we-online.de; Created by: Baojun Chen; Created Date: Dec.2015; ComponentLink2Description: Datasheet; ComponentLink2URL: http://katalog.we-online.de/pbs/datasheet/74479887222C.pdf
footprint 74479887xxxC_1008
pins: 1, 2


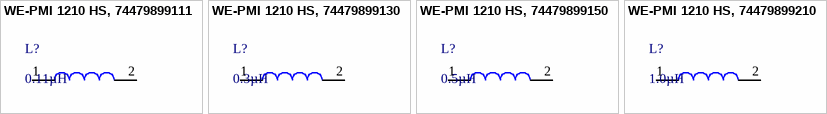
[diagram p12: symbols WE-PMI 1210 HS, 74479899111 to WE-PMI 1210 HS, 74479899210]

## WE-PMI 1210 HS, 74479899111
designator L?, comment 0.11µH
WE-PMI Power Multilayer Inductor, L= 0.11µH; partNo: 74479899111; Manufacturer: Wurth Elektronik; Inductance: 0.11µH; ComponentLink1Description: Manufacturer; ComponentLink1URL: http://www.we-online.de; Created by: Baojun Chen; Created Date: Dec.2015; ComponentLink2Description: Datasheet; ComponentLink2URL: http://katalog.we-online.de/pbs/datasheet/74479899111.pdf
footprint 74479899xxx_1210
pins: 1, 2

## WE-PMI 1210 HS, 74479899130
designator L?, comment 0.3µH
WE-PMI Power Multilayer Inductor, L= 0.3µH; partNo: 74479899130; Manufacturer: Wurth Elektronik; Inductance: 0.3µH; ComponentLink1Description: Manufacturer; ComponentLink1URL: http://www.we-online.de; Created by: Baojun Chen; Created Date: Dec.2015; ComponentLink2Description: Datasheet; ComponentLink2URL: http://katalog.we-online.de/pbs/datasheet/74479899130.pdf
footprint 74479899xxx_1210
pins: 1, 2

## WE-PMI 1210 HS, 74479899150
designator L?, comment 0.5µH
WE-PMI Power Multilayer Inductor, L= 0.5µH; partNo: 74479899150; Manufacturer: Wurth Elektronik; Inductance: 0.5µH; ComponentLink1Description: Manufacturer; ComponentLink1URL: http://www.we-online.de; Created by: Baojun Chen; Created Date: Dec.2015; ComponentLink2Description: Datasheet; ComponentLink2URL: http://katalog.we-online.de/pbs/datasheet/74479899150.pdf
footprint 74479899xxx_1210
pins: 1, 2

## WE-PMI 1210 HS, 74479899210
designator L?, comment 1.0µH
WE-PMI Power Multilayer Inductor, L= 1.0µH; partNo: 74479899210; Manufacturer: Wurth Elektronik; Inductance: 1.0µH; ComponentLink1Description: Manufacturer; ComponentLink1URL: http://www.we-online.de; Created by: Baojun Chen; Created Date: Dec.2015; ComponentLink2Description: Datasheet; ComponentLink2URL: http://katalog.we-online.de/pbs/datasheet/74479899210.pdf
footprint 74479899xxx_1210
pins: 1, 2


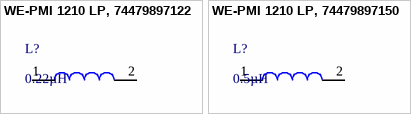
[diagram p13: symbols WE-PMI 1210 LP, 74479897122 to WE-PMI 1210 LP, 74479897150]

## WE-PMI 1210 LP, 74479897122
designator L?, comment 0.22µH
WE-PMI Power Multilayer Inductor, L= 0.22µH; partNo: 74479897122; Manufacturer: Wurth Elektronik; Inductance: 0.22µH; ComponentLink1Description: Manufacturer; ComponentLink1URL: http://www.we-online.de; Created by: Baojun Chen; Created Date: Dec.2015; ComponentLink2Description: Datasheet; ComponentLink2URL: http://katalog.we-online.de/pbs/datasheet/74479897122.pdf
footprint 74479897xxx_1210
pins: 1, 2

## WE-PMI 1210 LP, 74479897150
designator L?, comment 0.5µH
WE-PMI Power Multilayer Inductor, L= 0.5µH; partNo: 74479897150; Manufacturer: Wurth Elektronik; Inductance: 0.5µH; ComponentLink1Description: Manufacturer; ComponentLink1URL: http://www.we-online.de; Created by: Baojun Chen; Created Date: Dec.2015; ComponentLink2Description: Datasheet; ComponentLink2URL: http://katalog.we-online.de/pbs/datasheet/74479897150.pdf
footprint 74479897xxx_1210
pins: 1, 2